# EAGLE library part INA125 (library template)
Instrumentation Amplifier With Precision Voltage Renference
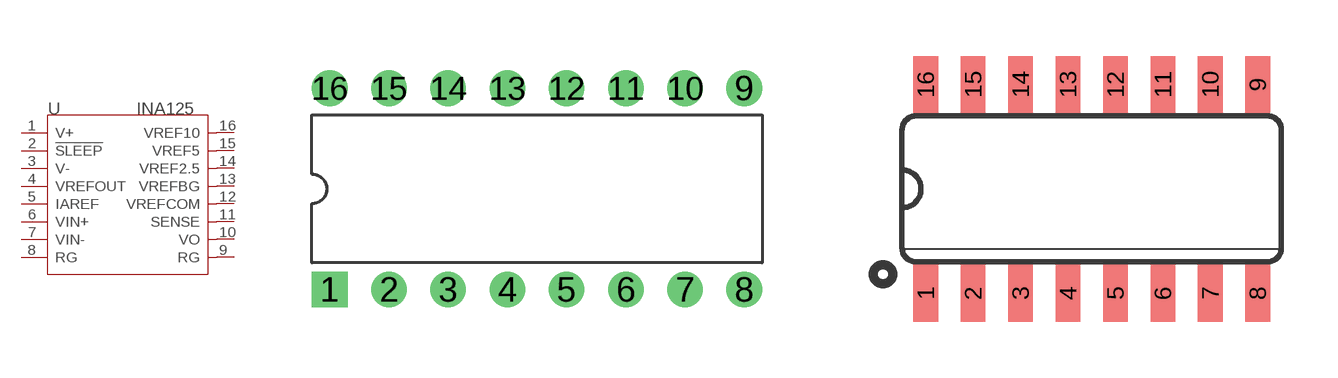
[diagram p9: symbol with the pads of DIP16; footprints DIP16, SO16]

Designator prefix U

## INA125P  [DIP16]
1  V+
2  !SLEEP
3  V-
4  VREFOUT
5  IAREF
6  VIN+
7  VIN-
8  RG
9  RG
10  VO
11  SENSE
12  VREFCOM
13  VREFBG
14  VREF2.5
15  VREF5
16  VREF10

## INA125U  [SO16]
Pads as for DIP16

## Footprint DIP16 (pad centres in mm)
drill 0.762 pad 1.524 square: 1 -8.89,-4.318
drill 0.762 pad 1.524: 2 -6.35,-4.318; 3 -3.81,-4.318; 4 -1.27,-4.318; 5 1.27,-4.318; 6 3.81,-4.318; 7 6.35,-4.318; 8 8.89,-4.318; 9 8.89,4.318; 10 6.35,4.318; 11 3.81,4.318; 12 1.27,4.318; 13 -1.27,4.318; 14 -3.81,4.318; 15 -6.35,4.318; 16 -8.89,4.318

## Footprint SO16 (pad centres in mm)
Small Outline package 150 mil
smd 0.66 x 1.524: 1 -4.445,-2.794; 2 -3.175,-2.794; 3 -1.905,-2.794; 4 -0.635,-2.794; 5 0.635,-2.794; 6 1.905,-2.794; 7 3.175,-2.794; 8 4.445,-2.794; 9 4.445,2.794; 10 3.175,2.794; 11 1.905,2.794; 12 0.635,2.794; 13 -0.635,2.794; 14 -1.905,2.794; 15 -3.175,2.794; 16 -4.445,2.794